# EAGLE library part CH442E (library edrtech_lib)
Analog switch Source: Datasheet <http://www.wch.cn/downloads/CH440DS1_PDF.html>
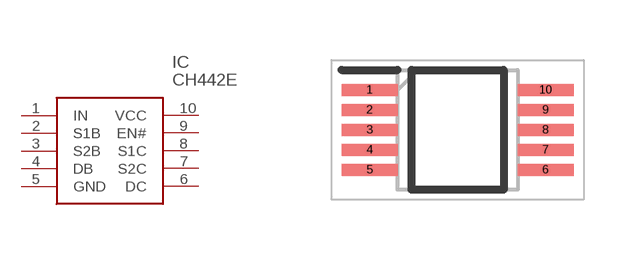
[diagram p23: symbol with the pads of SOP50P490X100-10N; footprint SOP50P490X100-10N]

Designator prefix IC

## CH442E (DESCRIPTION: Analog switch; HEIGHT: 1mm; MANUFACTURER_NAME: WCH; MANUFACTURER_PART_NUMBER: CH442E)  [SOP50P490X100-10N]
1  IN  in
2  S1B
3  S2B
4  DB
5  GND  pwr
6  DC
7  S2C
8  S1C
9  EN#  in
10  VCC  pwr

## Footprint SOP50P490X100-10N (pad centres in mm)
MSOP10_CH442E
smd 1.4 x 0.3: 1 -2.2,1; 2 -2.2,0.5; 3 -2.2,0; 4 -2.2,-0.5; 5 -2.2,-1; 6 2.2,-1; 7 2.2,-0.5; 8 2.2,0; 9 2.2,0.5; 10 2.2,1